# EAGLE library part ESD7008MUTAG (library ESD7008MUTAG)
10V Clamp Ipp Tvs Diode Surface Mount 18-UDFN (5.5x1.5) Source: Datasheet <http://www.onsemi.com/pub/Collateral/ESD7008-D.PDF>
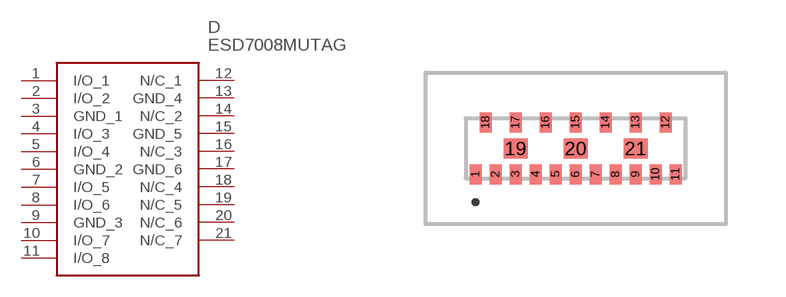
[diagram p0: symbol with the pads of ESD7008MUTAG; footprint ESD7008MUTAG]

Designator prefix D

## ESD7008MUTAG (Arrow_Part_Number: ESD7008MUTAG; Arrow_Price-Stock: https://www.arrow.com/en/products/esd7008mutag/on-semiconductor?region=nac; Description: 10V Clamp Ipp Tvs Diode Surface Mount 18-UDFN (5.5x1.5); Height: 0.55mm; Manufacturer_Name: onsemi; Manufacturer_Part_Number: ESD7008MUTAG; Mouser_Part_Number: 863-ESD7008MUTAG; Mouser_Price-Stock: https://www.mouser.co.uk/ProductDetail/onsemi/ESD7008MUTAG?qs=Gud3nhECO%2Fs1qvAxYTTX5w%3D%3D)  [ESD7008MUTAG]
1  I/O_1
2  I/O_2
3  GND_1
4  I/O_3
5  I/O_4
6  GND_2
7  I/O_5
8  I/O_6
9  GND_3
10  I/O_7
11  I/O_8
12  N/C_1
13  GND_4
14  N/C_2
15  GND_5
16  N/C_3
17  GND_6
18  N/C_4
19  N/C_5
20  N/C_6
21  N/C_7

## Footprint ESD7008MUTAG (pad centres in mm)
UDFN18, 5.5x1.5, 0.5P
smd 0.3 x 0.5: 1 -2.5,-0.65; 2 -2,-0.65; 3 -1.5,-0.65; 4 -1,-0.65; 5 -0.5,-0.65; 6 0,-0.65; 7 0.5,-0.65; 8 1,-0.65; 9 1.5,-0.65; 10 2,-0.65; 11 2.5,-0.65; 12 2.25,0.65; 13 1.5,0.65; 14 0.75,0.65; 15 0,0.65; 16 -0.75,0.65; 17 -1.5,0.65; 18 -2.25,0.65
smd 0.6 x 0.5: 19 -1.5,0; 20 0,0; 21 1.5,0